# EAGLE library part ATXMEGA32E5 (library ds_ic_mcu)
8/16-bit Atmel AVR XMEGA Microcontrollers
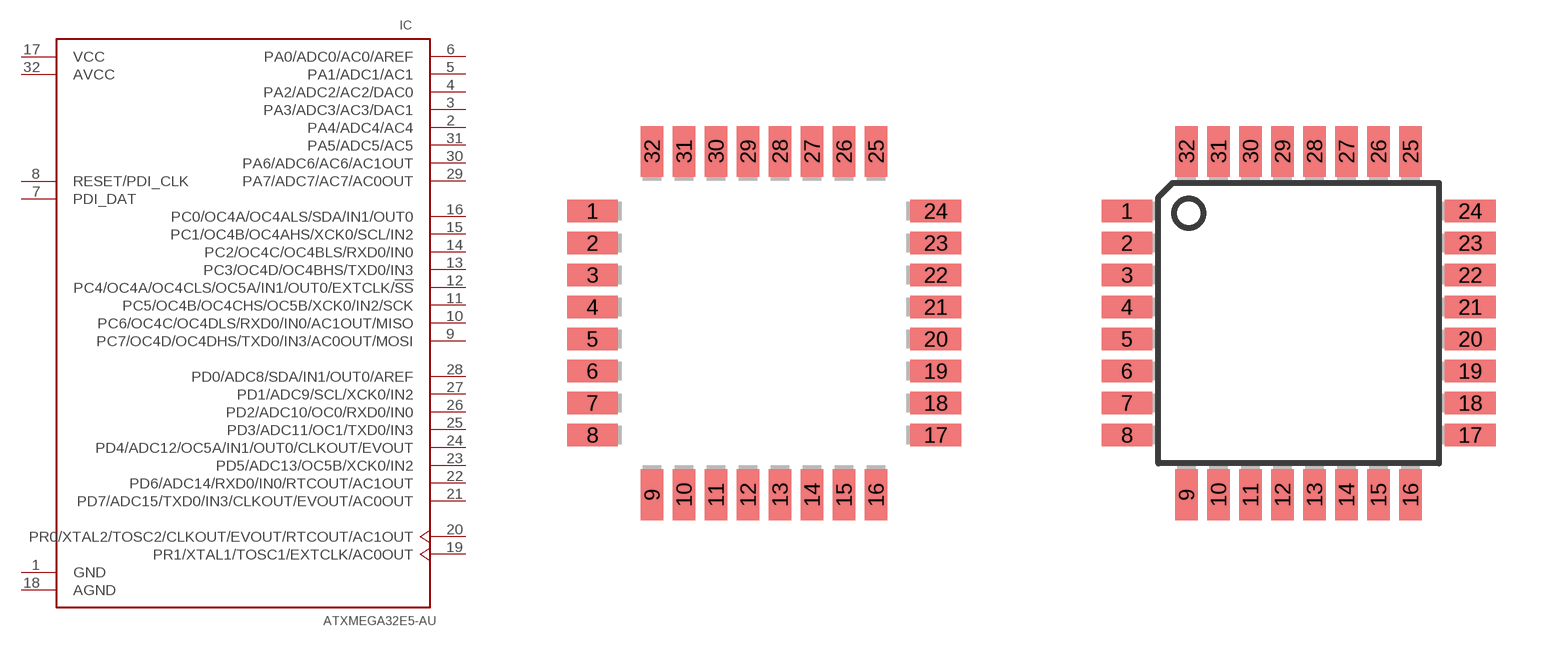
[diagram p4: symbol with the pads of TQFP32; footprints TQFP32, TQFP32-08]

Designator prefix IC

## ATXMEGA32E5  [TQFP32]
1  GND  pwr
2  PA4/ADC4/AC4
3  PA3/ADC3/AC3/DAC1
4  PA2/ADC2/AC2/DAC0
5  PA1/ADC1/AC1
6  PA0/ADC0/AC0/AREF
7  PDI_DAT
8  RESET/PDI_CLK
9  PC7/OC4D/OC4DHS/TXD0/IN3/AC0OUT/MOSI
10  PC6/OC4C/OC4DLS/RXD0/IN0/AC1OUT/MISO
11  PC5/OC4B/OC4CHS/OC5B/XCK0/IN2/SCK
12  PC4/OC4A/OC4CLS/OC5A/IN1/OUT0/EXTCLK/!SS
13  PC3/OC4D/OC4BHS/TXD0/IN3
14  PC2/OC4C/OC4BLS/RXD0/IN0
15  PC1/OC4B/OC4AHS/XCK0/SCL/IN2
16  PC0/OC4A/OC4ALS/SDA/IN1/OUT0
17  VCC  pwr
18  AGND  pwr
19  PR1/XTAL1/TOSC1/EXTCLK/AC0OUT
20  PR0/XTAL2/TOSC2/CLKOUT/EVOUT/RTCOUT/AC1OUT
21  PD7/ADC15/TXD0/IN3/CLKOUT/EVOUT/AC0OUT
22  PD6/ADC14/RXD0/IN0/RTCOUT/AC1OUT
23  PD5/ADC13/OC5B/XCK0/IN2
24  PD4/ADC12/OC5A/IN1/OUT0/CLKOUT/EVOUT
25  PD3/ADC11/OC1/TXD0/IN3
26  PD2/ADC10/OC0/RXD0/IN0
27  PD1/ADC9/SCL/XCK0/IN2
28  PD0/ADC8/SDA/IN1/OUT0/AREF
29  PA7/ADC7/AC7/AC0OUT
30  PA6/ADC6/AC6/AC1OUT
31  PA5/ADC5/AC5
32  AVCC  pwr

## ATXMEGA32E5A  [TQFP32-08]
Pads as for TQFP32

## Footprint TQFP32 (pad centres in mm)
smd 1.27 x 0.559: 1 -4.293,2.8; 2 -4.293,2; 3 -4.293,1.2; 4 -4.293,0.4; 5 -4.293,-0.4; 6 -4.293,-1.2; 7 -4.293,-2; 8 -4.293,-2.8; 17 4.293,-2.8; 18 4.293,-2; 19 4.293,-1.2; 20 4.293,-0.4; 21 4.293,0.4; 22 4.293,1.2; 23 4.293,2; 24 4.293,2.8
smd 0.559 x 1.27: 9 -2.8,-4.293; 10 -2,-4.293; 11 -1.2,-4.293; 12 -0.4,-4.293; 13 0.4,-4.293; 14 1.2,-4.293; 15 2,-4.293; 16 2.8,-4.293; 25 2.8,4.293; 26 2,4.293; 27 1.2,4.293; 28 0.4,4.293; 29 -0.4,4.293; 30 -1.2,4.293; 31 -2,4.293; 32 -2.8,4.293

## Footprint TQFP32-08 (pad centres in mm)
Thin Plasic Quad Flat Package Grid 0.8 mm
smd 1.27 x 0.559: 1 -4.293,2.8; 2 -4.293,2; 3 -4.293,1.2; 4 -4.293,0.4; 5 -4.293,-0.4; 6 -4.293,-1.2; 7 -4.293,-2; 8 -4.293,-2.8; 17 4.293,-2.8; 18 4.293,-2; 19 4.293,-1.2; 20 4.293,-0.4; 21 4.293,0.4; 22 4.293,1.2; 23 4.293,2; 24 4.293,2.8
smd 0.559 x 1.27: 9 -2.8,-4.293; 10 -2,-4.293; 11 -1.2,-4.293; 12 -0.4,-4.293; 13 0.4,-4.293; 14 1.2,-4.293; 15 2,-4.293; 16 2.8,-4.293; 25 2.8,4.293; 26 2,4.293; 27 1.2,4.293; 28 0.4,4.293; 29 -0.4,4.293; 30 -1.2,4.293; 31 -2,4.293; 32 -2.8,4.293